# EAGLE library part MSP430AFE_24TSSOP (library YOUWASH_V0.1)
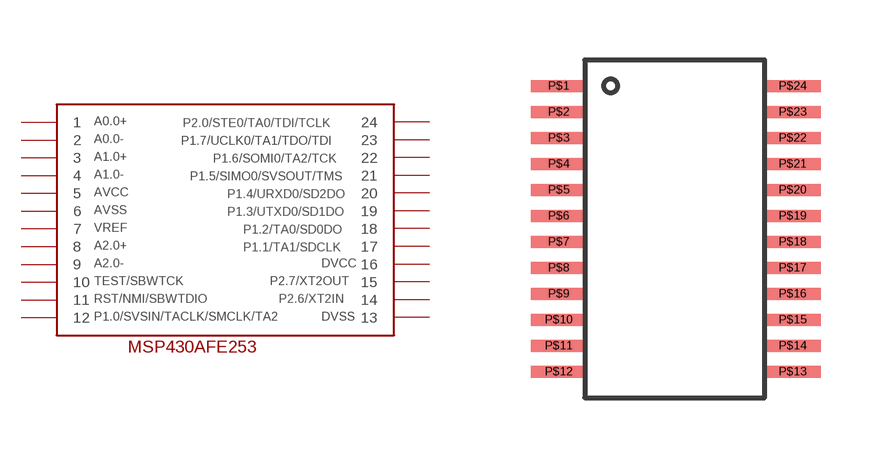
[diagram p3: symbol with the pads of MSP430AFE_24TSSOP; footprint MSP430AFE_24TSSOP]

Designator prefix -

## MSP430AFE_24TSSOP  [MSP430AFE_24TSSOP]
P$1  1
P$2  2
P$3  3
P$4  4
P$5  5
P$6  6
P$7  7
P$8  8
P$9  9
P$10  10
P$11  11
P$12  12
P$13  13
P$14  14
P$15  15
P$16  16
P$17  17
P$18  18
P$19  19
P$20  20
P$21  21
P$22  22
P$23  23
P$24  24

## Footprint MSP430AFE_24TSSOP (pad centres in mm)
smd 1.4 x 0.3: P$1 -3,3.75; P$2 -3,3.1; P$3 -3,2.45; P$4 -3,1.8; P$5 -3,1.15; P$6 -3,0.5; P$7 -3,-0.15; P$8 -3,-0.8; P$9 -3,-1.45; P$10 -3,-2.1; P$11 -3,-2.75; P$12 -3,-3.4; P$13 2.85,-3.4; P$14 2.85,-2.75; P$15 2.85,-2.1; P$16 2.85,-1.45; P$17 2.85,-0.8; P$18 2.85,-0.15; P$19 2.85,0.5; P$20 2.85,1.15; P$21 2.85,1.8; P$22 2.85,2.45; P$23 2.85,3.1; P$24 2.85,3.75